# Altium schematic symbol library XT90PB-F.SchLib: 1 symbol
Pins are listed as number, name and electrical type; pins without a type are passive.

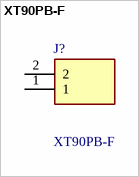
[diagram p0: symbol XT90PB-F]

## XT90PB-F
designator J?
Connector: DC supply; socket; XT90; female; PIN: 2; on PCBs; THT; Manufacturer_Name: Amass; Geometry.Height: 19.7mm; Manufacturer_Part_Number: XT90PB-F; Mouser Part Number: *; Mouser Price/Stock: *; Arrow Part Number: *; Arrow Price/Stock: *; Datasheet Link: https://www.china-amass.com/biao/439.html
footprint XT90PBF
pins: 1, 2